# Altium schematic symbol library 08056C106MAT2A.SchLib: 1 symbol
Pins are listed as number, name and electrical type; pins without a type are passive.

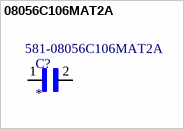
[diagram p0: symbol 08056C106MAT2A]

## 08056C106MAT2A
designator C?  Supplier Part Number 1: 581-08056C106MAT2A
0805 10 uF 6.3 V Â±20 % Tolerance X7R SMT Multilayer Ceramic Capacitor; MP: 08056C106MAT2A; Package: None; Price: None; Value: *; Availability: Unavailable; Supplier 1: Mouser
footprint CAPC2012X152N
pins: 1, 2